# EAGLE library part DISP-CA56-12GWA (library Namenlos)
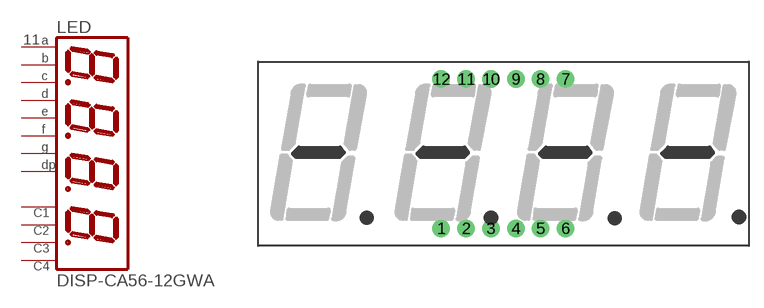
[diagram p18: symbol with the pads of 0,56_4X7SEG_LED; footprint 0,56_4X7SEG_LED]

Designator prefix LED

## DISP-CA56-12GWA  [0,56_4X7SEG_LED]
1  E  pas
2  D  pas
3  DP  pas
4  C  pas
5  G  pas
6  A4
7  B  pas
8  A3
9  A2
10  F  pas
11  A  pas
12  A1

## Footprint 0,56_4X7SEG_LED (pad centres in mm)
drill 0.5 pad 1.778: 1 -6.35,-7.62; 2 -3.81,-7.62; 3 -1.27,-7.62; 4 1.27,-7.62; 5 3.81,-7.62; 6 6.35,-7.62; 7 6.35,7.62; 8 3.81,7.62; 9 1.27,7.62; 10 -1.27,7.62; 11 -3.81,7.62; 12 -6.35,7.62